# EAGLE library part CUSTOM_MT3608 (library lithium_battery_manager_v12)
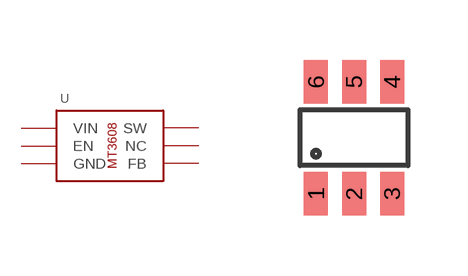
[diagram p1: symbol with the pads of CUSTOM_SOT23-6; footprint CUSTOM_SOT23-6]

Designator prefix -

## CUSTOM_MT3608  [CUSTOM_SOT23-6]
1  SW
2  GND
3  FB
4  EN
5  VIN
6  NC

## Footprint CUSTOM_SOT23-6 (pad centres in mm)
SOT23-6
smd 0.6 x 1.1: 1 0,0; 2 0.95,0; 3 1.9,0; 4 1.9,2.8; 5 0.95,2.8; 6 0,2.8